# Altium schematic symbol library STM32L486JGY6.SchLib: 1 symbol
Pins are listed as number, name and electrical type; pins without a type are passive.

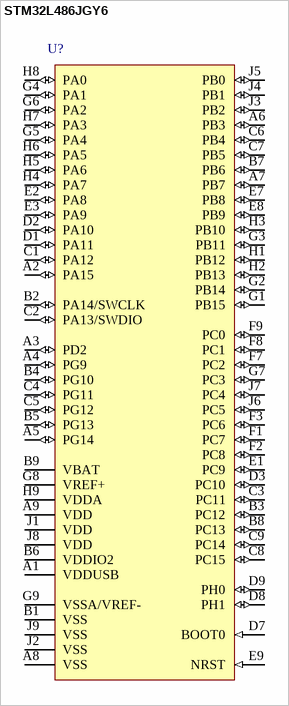
[diagram p0: symbol STM32L486JGY6]

## STM32L486JGY6
designator U?
footprint WLCSP72W44L37
pins: A1 VDDUSB, A2 PA15 (io), A3 PD2 (io), A4 PG9 (io), A5 PG14 (io), A6 PB3 (io), A7 PB7 (io), A8 VSS, A9 VDD, B1 VSS, B2 PA14/SWCLK (io), B3 PC12 (io), B4 PG10 (io), B5 PG13 (io), B6 VDDIO2, B7 PB6 (io), B8 PC13 (io), B9 VBAT, C1 PA12 (io), C2 PA13/SWDIO (io), C3 PC11 (io), C4 PG11 (io), C5 PG12 (io), C6 PB4 (io), C7 PB5 (io), C8 PC15 (io), C9 PC14 (io), D1 PA11 (io), D2 PA10 (io), D3 PC10 (io), D7 BOOT0 (in), D8 PH1 (io), D9 PH0 (io), E1 PC9 (io), E2 PA8 (io), E3 PA9 (io), E7 PB8 (io), E8 PB9 (io), E9 NRST (in), F1 PC7 (io), F2 PC8 (io), F3 PC6 (io), F7 PC2 (io), F8 PC1 (io), F9 PC0 (io), G1 PB15 (io), G2 PB14 (io), G3 PB11 (io), G4 PA1 (io), G5 PA4 (io), G6 PA2 (io), G7 PC3 (io), G8 VREF+, G9 VSSA/VREF-, H1 PB12 (io), H2 PB13 (io), H3 PB10 (io), H4 PA7 (io), H5 PA6 (io), H6 PA5 (io), H7 PA3 (io), H8 PA0 (io), H9 VDDA, J1 VDD, J2 VSS, J3 PB2 (io), J4 PB1 (io), J5 PB0 (io), J6 PC5 (io), J7 PC4 (io), J8 VDD, J9 VSS